# EAGLE library part 75176A (library 751xx)
DIFFERENTIAL BUS TRANSCEIVER Source: http://focus.ti.com/lit/ds/symlink/sn75176a.pdf
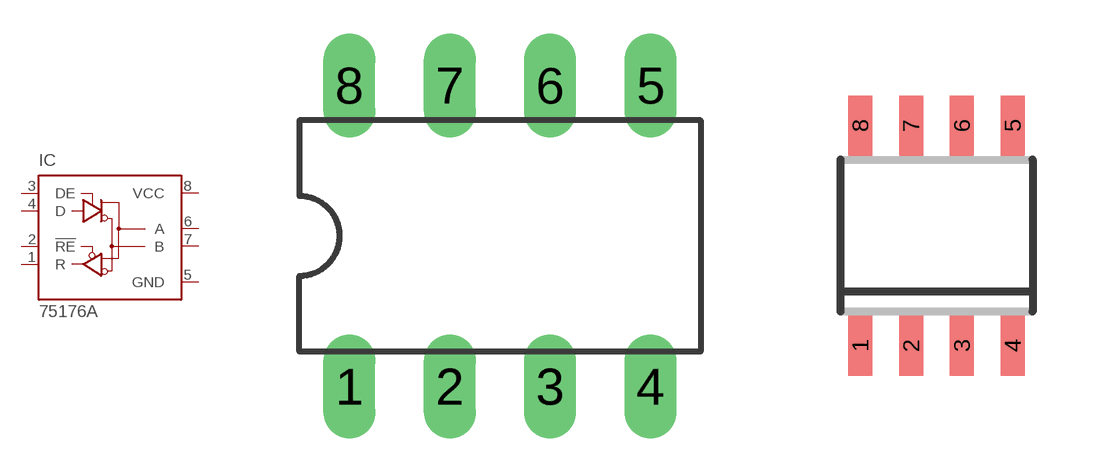
[diagram p6: symbol with the pads of DIL08; footprints DIL08, D_R-PDSO-G8]

Designator prefix IC

## 75176AP  [DIL08]
1  R  in
2  !RE  in
3  DE  in
4  D  in
5  GND  pwr
6  A  out
7  B  out
8  VCC  pwr

## 75176AD  [D_R-PDSO-G8]
Pads as for DIL08

## Footprint DIL08 (pad centres in mm)
Dual In Line Package
drill 0.813 long: 1 -3.81,-3.81; 2 -1.27,-3.81; 3 1.27,-3.81; 4 3.81,-3.81; 5 3.81,3.81; 6 1.27,3.81; 7 -1.27,3.81; 8 -3.81,3.81

## Footprint D_R-PDSO-G8 (pad centres in mm)
D (R-PDSO-G8) Source: http://focus.ti.com/lit/ds/slos063b/slos063b.pdf
smd 0.6 x 1.5: 1 -1.905,-2.75; 2 -0.635,-2.75; 3 0.635,-2.75; 4 1.905,-2.75; 5 1.905,2.75; 6 0.635,2.75; 7 -0.635,2.75; 8 -1.905,2.75